# Altium footprint library MarvinPcbLib2.PcbLib: 28 footprints (part 1 of 2)
Each footprint in its own frame and in the unit in brackets; x right, y up, seen from the top. Pads: shape width x height; smd on the part's side, far side on the other; paste and mask are expansions set on the pad; w line width, h text height; cw(c..) or ccw(c..) is an arc to the next point about the centre after c.
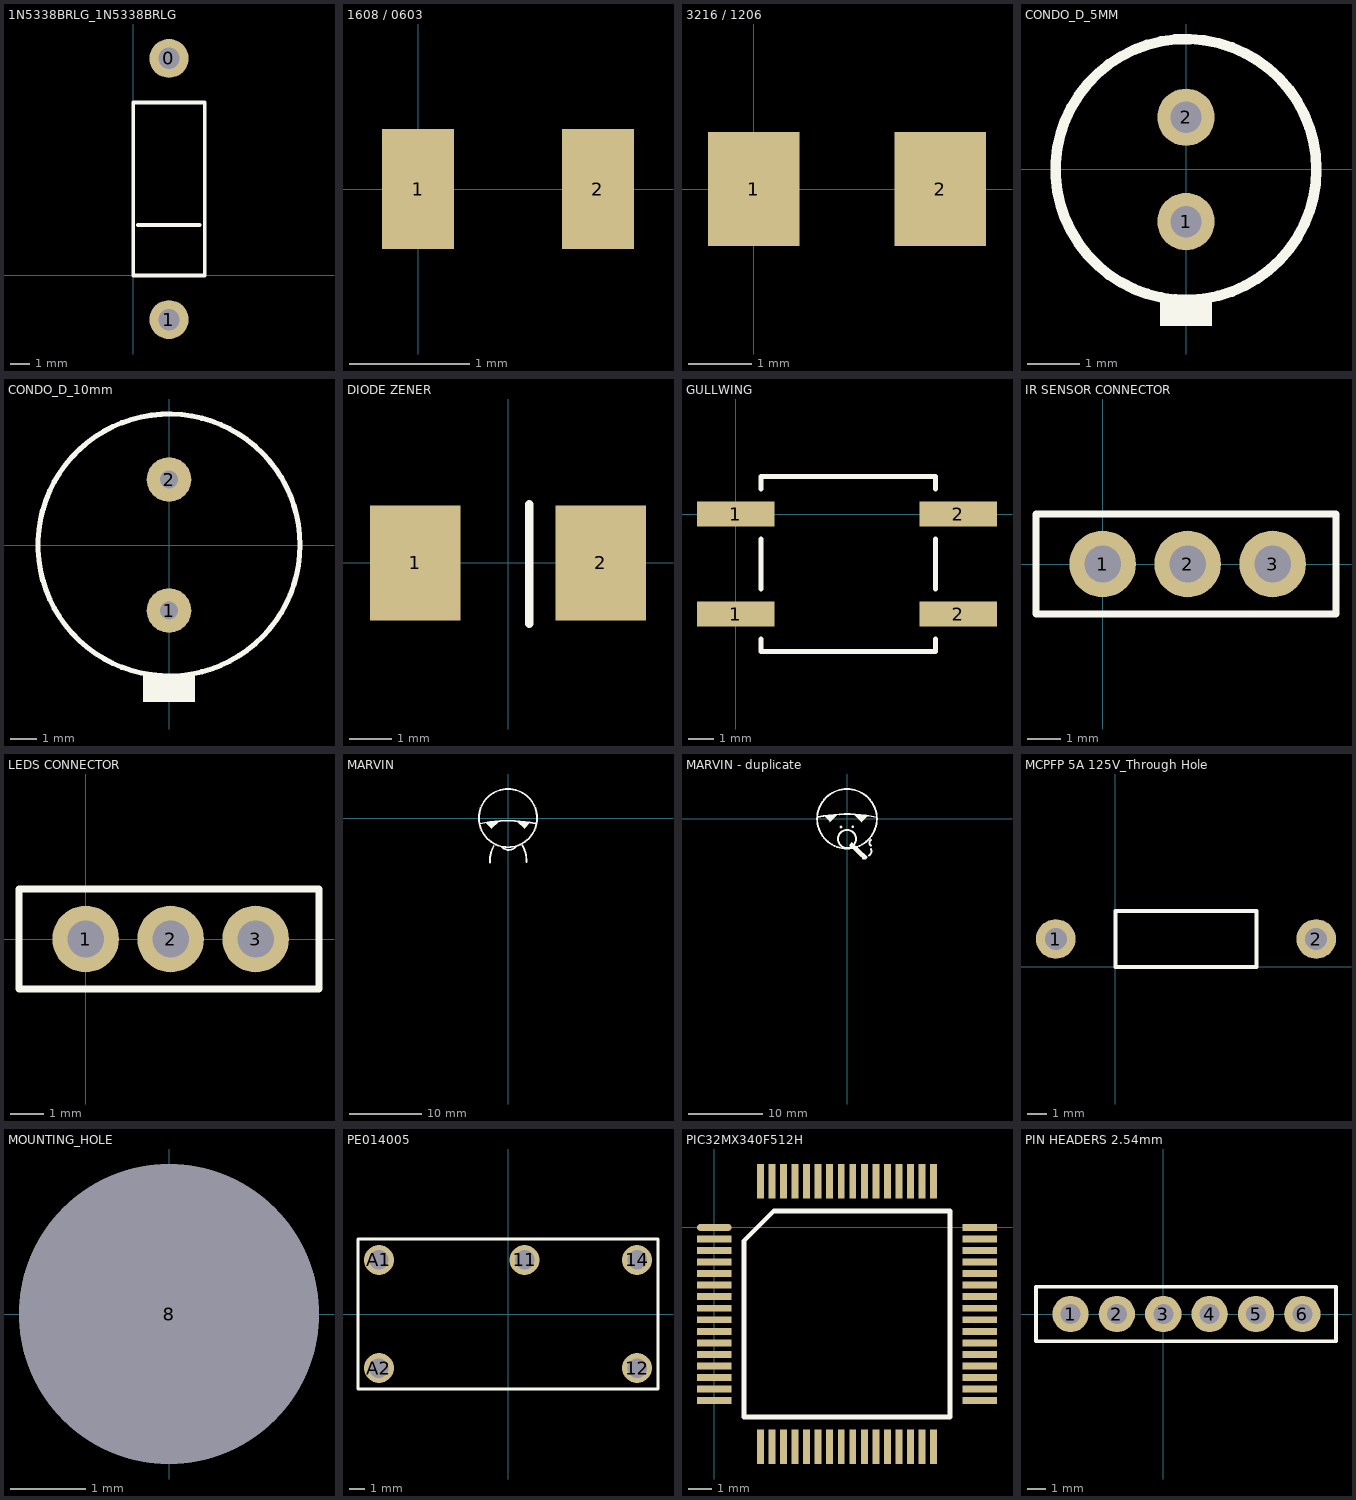
[diagram p0: the footprints below, top view; thin cyan lines are the x and y axes]

## 1N5338BRLG_1N5338BRLG [mm]
pads (2):
  round 2 hole 1.1 mask+0.2: 0(1.84,11.16) 1(1.84,-2.27)
Top Overlay:
  lines w0.2: 0.25,2.6 3.4,2.6 ; 0,0 3.68,0 3.68,8.89 0,8.89 0,0

## 1608 / 0603 [mm] "0603"
pads (2):
  rect 0.6x1 smd mask+0.2: 1(0,0) 2(1.5,0)

## 3216 / 1206 [mm]
pads (2):
  rect 1.45x1.8 smd mask+0.2: 1(0,0) 2(2.95,0)

## CONDO_D_5MM [mm]
pads (2):
  round 1.1 hole 0.6 mask+0.2: 1(0,-1) 2(0,1)
Top Overlay:
  circle w0.2: c0,0 r2.5
  region: -0.5,-2.5 -0.5,-3 0.5,-3 0.5,-2.5
3D body: height 11.2, standoff 0.2, extent -2.48,-2.495 2.5,2.495

## CONDO_D_10mm [mm]
pads (2):
  round 1.7 hole 0.7 mask+0.2: 1(0,-2.5) 2(0,2.5)
Top Overlay:
  circle w0.2: c0,0 r5
  region: -1,-4.9 -1,-6 1,-6 1,-4.9
3D body: height 12.7, standoff 0.2, extent -4.96,-4.99 5,4.99

## DIODE ZENER [mm]
pads (2):
  rect 2.159x2.743 smd mask+0.2: 1(-2.21,0) 2(2.21,0)
Top Overlay:
  lines w0.2: 0.508,-1.448 0.508,1.397

## GULLWING [mm]
pads (4):
  rect 3.1x1 smd mask+0.2: 1(0,-4) 1(0,0) 2(8.9,-4) 2(8.9,0)
Top Overlay:
  lines w0.2: 1,-5 1,-5.5 8,-5.5 8,-5 ; 1,-3 1,-1 ; 1,1 1,1.5 8,1.5 8,1 ; 8,-3 8,-1

## IR SENSOR CONNECTOR [mm]
pads (3):
  round 2 hole 1.1 mask+0.2: 1(0,0) 2(2.55,0) 3(5.1,0)
Top Overlay:
  lines w0.2: -2,-1.5 7,-1.5 7,1.5 -2,1.5 -2,-1.5
3D body: height 9.5, standoff -3.2, extent -1.27,-1.27 6.35,1.27

## LEDS CONNECTOR [mm]
pads (3):
  round 2 hole 1.1 mask+0.2: 1(0,0) 2(2.55,0) 3(5.1,0)
Top Overlay:
  lines w0.2: -2,-1.5 7,-1.5 7,1.5 -2,1.5 -2,-1.5
3D body: height 9.5, standoff -3.2, extent -1.27,-1.27 6.35,1.27

## MARVIN [mm]
Top Overlay:
  circle w0.254: c0,0 r4
  region: 3.05,-0.6 2.275,-1.375 2.275,-1.475 1.275,-0.475
  region: -3.063,-0.612 -2.288,-1.387 -2.288,-1.487 -1.288,-0.487
  lines w0.254: -3.873,-0.776 cw(c0,-18.8) 3.745,-0.749 ; -2.485,-6.087 cw(c1.747,-5.893) -1.95,-3.825 ; -0.875,-3.945 ccw(c0.105,-3.048) 1.125,-3.9 ; 2,-3.775 cw(c-1.697,-5.843) 2.535,-6.037

## MARVIN - duplicate [mm]
Top Overlay:
  circle w0.254: c0,-2.7 r1.217
  circle w0.254: c0,0 r4
  circle w0.254: c0.775,-1.075 r0.025
  circle w0.254: c-0.8,-1.1 r0.05
  region: 2.75,0.4 1.975,-0.375 1.975,-0.475 0.975,0.525
  region: -3.075,0.425 -2.3,-0.35 -2.3,-0.45 -1.3,0.55
  region: 0.625,-3.125 0.625,-3.175 0.275,-3.525 1.825,-5.075 2.7,-5.075 2.7,-5.1
  region: 1.95,-5.225 2.075,-5.1 2.7,-5.1 2.7,-5.25 2.525,-5.425 2.1,-5.425
  lines w0.254: -3.873,0.224 cw(c0,-17.8) 3.95,0.207 ; 2.95,-4.925 ccw(c2.604,-4.353) 3.2,-4.05 ; 3.2,-3.6 cw(c3.45,-3.225) 3.2,-2.85

## MCPFP 5A 125V_Through Hole [mm]
pads (2):
  round 2 hole 1.1 mask+0.2: 1(-3,1.4) 2(10.1,1.4)
Top Overlay:
  lines w0.2: 0,0 0,2.8 7.1,2.8 7.1,0 0,0

## MOUNTING_HOLE [mm]
pads (1):
  round 4 hole 4 unplated mask+1: 8(0,0)

## PE014005 [mm] "RELAIS PE014005"
pads (5):
  round 2 hole 1.3 mask+0.2: 11(1.1,3.6) 12(8.6,-3.6) 14(8.6,3.6) A1(-8.6,3.6) A2(-8.6,-3.6)
Top Overlay:
  lines w0.2: -10,-5 -10,5 10,5 10,-5 -10,-5
3D body: height 10, standoff 0.1, extent -10,-5 10,5

## PIC32MX340F512H [mm]
pads (64):
  oval 1.5x0.3 smd mask+0.2: 1(0,0)
  rect 1.5x0.3 smd mask+0.2: 2(0,-0.5) 3(0,-1) 4(0,-1.5) 5(0,-2) 6(0,-2.5) 7(0,-3) 8(0,-3.5) 9(0,-4) 10(0,-4.5) 11(0,-5) 12(0,-5.5) 13(0,-6) 14(0,-6.5) 15(0,-7) 16(0,-7.5) 33(11.5,-7.5) 34(11.5,-7) 35(11.5,-6.5) 36(11.5,-6) 37(11.5,-5.5) 38(11.5,-5) 39(11.5,-4.5) 40(11.5,-4) 41(11.5,-3.5) 42(11.5,-3) 43(11.5,-2.5) 44(11.5,-2) 45(11.5,-1.5) 46(11.5,-1) 47(11.5,-0.5) 48(11.5,0)
  rect 0.3x1.5 smd mask+0.2: 17(2,-9.5) 18(2.5,-9.5) 19(3,-9.5) 20(3.5,-9.5) 21(4,-9.5) 22(4.5,-9.5) 23(5,-9.5) 24(5.5,-9.5) 25(6,-9.5) 26(6.5,-9.5) 27(7,-9.5) 28(7.5,-9.5) 29(8,-9.5) 30(8.5,-9.5) 31(9,-9.5) 32(9.5,-9.5) 49(9.5,2) 50(9,2) 51(8.5,2) 52(8,2) 53(7.5,2) 54(7,2) 55(6.5,2) 56(6,2) 57(5.5,2) 58(5,2) 59(4.5,2) 60(4,2) 61(3.5,2) 62(3,2) 63(2.5,2) 64(2,2)
Top Overlay:
  lines w0.2: 1.285,-8.215 10.215,-8.215 10.215,0.715 2.57,0.715 1.285,-0.57 1.285,-8.215

## PIN HEADERS 2.54mm [mm]
pads (6):
  round 2 hole 1.1 mask+0.2: 1(-5.1,0) 2(-2.55,0) 3(0,0) 4(2.55,0) 5(5.1,0) 6(7.65,0)
Top Overlay:
  lines w0.2: -7,-1.5 -7,1.5 9.5,1.5 9.5,-1.5 -7,-1.5